# Altium schematic symbol library PersonalSchematicLibrary.SchLib: 13 symbols
Pins are listed as number, name and electrical type; pins without a type are passive.

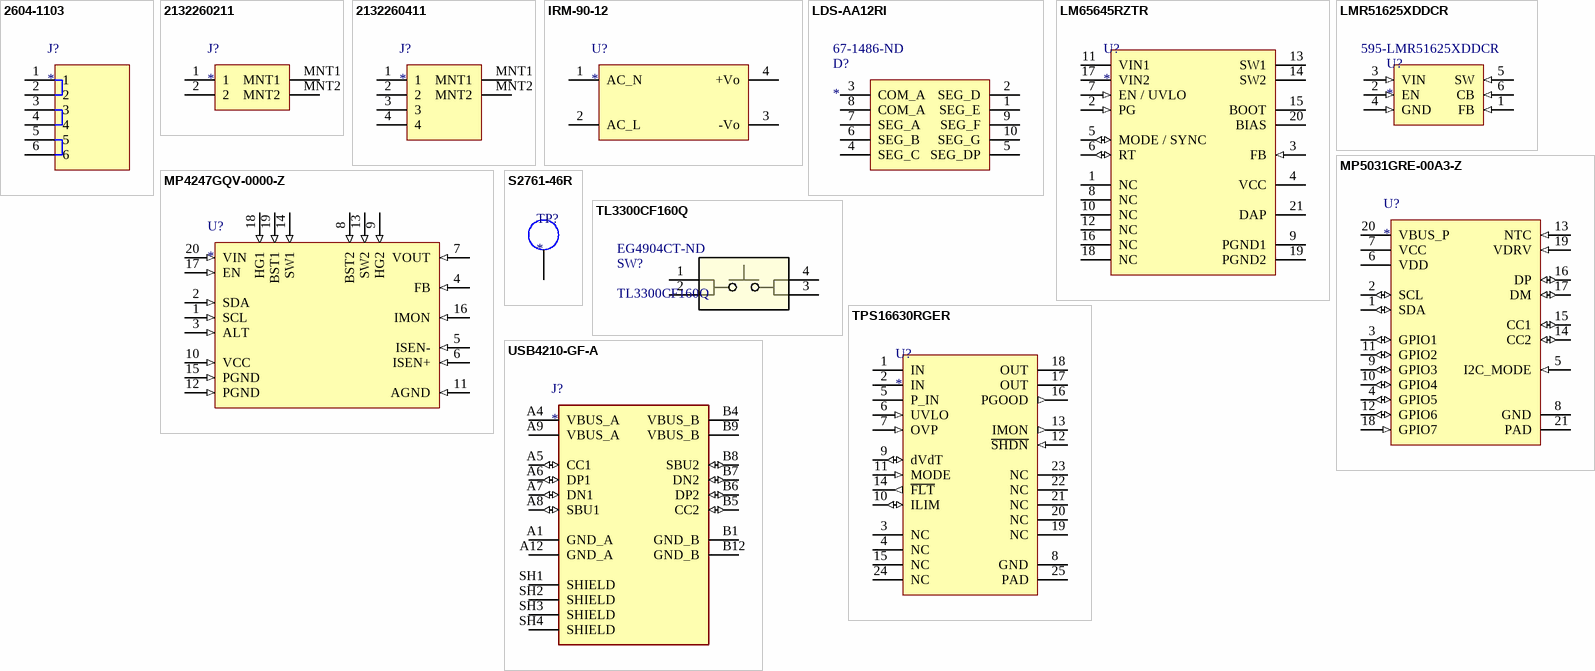
[diagram p0: symbols 2604-1103 to USB4210-GF-A]

## 2604-1103
designator J?
Supplier 1: DigiKey; Supplier Part Number 1: 2946-2604-1103-ND
footprint 2604-1103
pins: 1, 2, 3, 4, 5, 6

## 2132260211
designator J?
Supplier 1: DigiKey; Supplier Part Number 1: 900-2132260211CT-ND
footprint 2132260211
pins: 1, 2, MNT1, MNT2

## 2132260411
designator J?
Supplier 1: DigiKey; Supplier Part Number 1: 900-2132260411CT-ND
footprint 2132260411
pins: 1, 2, 3, 4, MNT1, MNT2

## IRM-90-12
designator U?
Supplier 1: RS (Formerly Allied Electronics); Supplier Part Number 1: 71939990
footprint IRM-90-12
pins: 1 AC_N (power), 2 AC_L (power), 3 -Vo (power), 4 +Vo (power)

## LDS-AA12RI
designator D?  Supplier Part Number 1: 67-1486-ND
Display Modules - LED Character and Numeric Green 7-Segment 1 Character Common Anode 4.4V 10mA 1.339" H x 0.945" W x 0.413" D (34.00mm x 24.00mm x 10.50mm) 10-DIP (1.200", 30.48mm); Supplier 1: Digikey; ComponentLink1Description: Datasheet; ComponentLink1URL: https://www.mouser.com/datasheet/2/244/LUMXD00050_236-2551070.pdf
footprint LDS-AA12RI
pins: 1 SEG_E (power), 2 SEG_D (power), 3 COM_A (power), 4 SEG_C (power), 5 SEG_DP (power), 6 SEG_B (power), 7 SEG_A (power), 8 COM_A (power), 9 SEG_F (power), 10 SEG_G (power)

## LM65645RZTR
designator U?
Supplier 1: DigiKey; Supplier Part Number 1: 296-LM65645RZTRCT-ND
footprint LM65645RZTR
pins: 1 NC, 2 PG (in), 3 FB (in), 4 VCC (power), 5 MODE / SYNC  (io), 6 RT (io), 7 EN / UVLO (in), 8 NC, 9 PGND1 (power), 10 NC, 11 VIN1 (power), 12 NC, 13 SW1 (power), 14 SW2 (power), 15 BOOT (power), 16 NC, 17 VIN2 (power), 18 NC, 19 PGND2 (power), 20 BIAS (power), 21 DAP (power)

## LMR51625XDDCR
designator U?  Supplier Part Number 1: 595-LMR51625XDDCR
Supplier 1: Mouser
footprint SOT95P280X110-6N (SOT23, 6-Leads, Body 2.90x2.80mm, Pitch 0.95mm, IPC Medium Density)
pins: 1 FB (in), 2 EN (in), 3 VIN (in), 4 GND (in), 5 SW (in), 6 CB (in)

## MP4247GQV-0000-Z
designator U?
Supplier 1: Future Electronics; Supplier Part Number 1: 3182743
footprint MP4247GQV
pins: 1 SCL (in), 2 SDA (in), 3 ALT (in), 4 FB (in), 5 ISEN- (in), 6 ISEN+ (in), 7 VOUT (in), 8 BST2 (in), 9 HG2 (in), 10 VCC (in), 11 AGND (in), 12 PGND (in), 13 SW2 (in), 14 SW1 (in), 15 PGND (in), 16 IMON (in), 17 EN (in), 18 HG1 (in), 19 BST1 (in), 20 VIN (in)

## MP5031GRE-00A3-Z
designator U?
Supplier 1: DigiKey; Supplier Part Number 1: 1589-MP5031GRE-00A3-ZCT-ND
footprint MP5031GRE
pins: 1 SDA (io), 2 SCL (io), 3 GPIO1 (io), 4 GPIO5 (io), 5 I2C_MODE (in), 6 VDD (power), 7 VCC (power), 8 GND (power), 9 GPIO3 (io), 10 GPIO4 (io), 11 GPIO2 (io), 12 GPIO6 (io), 13 NTC (in), 14 CC2 (io), 15 CC1 (io), 16 DP (io), 17 DM (io), 18 GPIO7 (in), 19 VDRV (in), 20 VBUS_P (power), 21 PAD (power)

## S2761-46R
designator TP?
Supplier 1: DigiKey; Supplier Part Number 1: 952-2665-1-ND
footprint S2761-46R
pins: 1

## TL3300CF160Q
designator SW?  Supplier Part Number 1: EG4904CT-ND
Description; Manufacturer_Name: E-Switch; Copyright: Copyright (C) 2025 Ultra Librarian. All rights reserved.; Manufacturer_Part_Number: TL3300CF160Q; RefDes: RefDes; Type: Type; Supplier 1: Digikey
footprint SW_TL3300CF160Q_EWI
pins: 1, 2, 3, 4

## TPS16630RGER
designator U?
Supplier 1: DigiKey; Supplier Part Number 1: 296-TPS16630RGERCT-ND
footprint QFN50P400X400X100_HS-25N (QFN, 24-Leads, Body 4.00x4.00mm, Pitch 0.50mm, Thermal Pad 2.70x2.70mm, IPC Medium Density)
pins: 1 IN (power), 2 IN (power), 3 NC, 4 NC, 5 P_IN (power), 6 UVLO (in), 7 OVP (in), 8 GND (power), 9 dVdT (io), 10 ILIM (io), 11 MODE (in), 12 ~{SHDN} (in), 13 IMON (out), 14 ~{FLT} (out), 15 NC, 16 PGOOD (out), 17 OUT (power), 18 OUT (power), 19 NC, 20 NC, 21 NC, 22 NC, 23 NC, 24 NC, 25 PAD (power)

## USB4210-GF-A
designator J?
Supplier 1: DigiKey; Supplier Part Number 1: 2073-USB4210-GF-ACT-ND
footprint USB4210-GF-A
pins: A1 GND_A (power), A4 VBUS_A (power), A5 CC1 (io), A6 DP1 (io), A7 DN1 (io), A8 SBU1 (io), A9 VBUS_A (power), A12 GND_A (power), B1 GND_B (power), B4 VBUS_B (power), B5 CC2 (io), B6 DP2 (io), B7 DN2 (io), B8 SBU2 (io), B9 VBUS_B (power), B12 GND_B (power), SH1 SHIELD, SH2 SHIELD, SH3 SHIELD, SH4 SHIELD